# EAGLE library part RESISTOR_ARRAY (library julio)
BI Technologies Resistor arrays
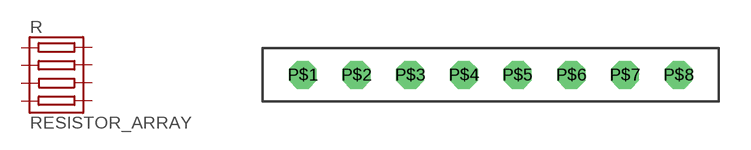
[diagram p2: symbol with the pads of RES_ARRAY_DIP_4; footprint RES_ARRAY_DIP_4]

Designator prefix R

## RESISTOR_ARRAY (MPN: SIL 8-4)  [RES_ARRAY_DIP_4]
P$1  P$1  pas
P$2  P$2  pas
P$3  P$3  pas
P$4  P$4  pas
P$5  P$5  pas
P$6  P$6  pas
P$7  P$7  pas
P$8  P$8  pas

## Footprint RES_ARRAY_DIP_4 (pad centres in mm)
drill 0.813 octagon: P$1 0,0; P$2 2.54,0; P$3 5.08,0; P$4 7.62,0; P$5 10.16,0; P$6 12.7,0; P$7 15.24,0; P$8 17.78,0